# Altium footprint library eliot.PcbLib: 9 footprints
Each footprint in its own frame and in the unit in brackets; x right, y up, seen from the top. Pads: shape width x height; smd on the part's side, far side on the other; paste and mask are expansions set on the pad; w line width, h text height; cw(c..) or ccw(c..) is an arc to the next point about the centre after c.
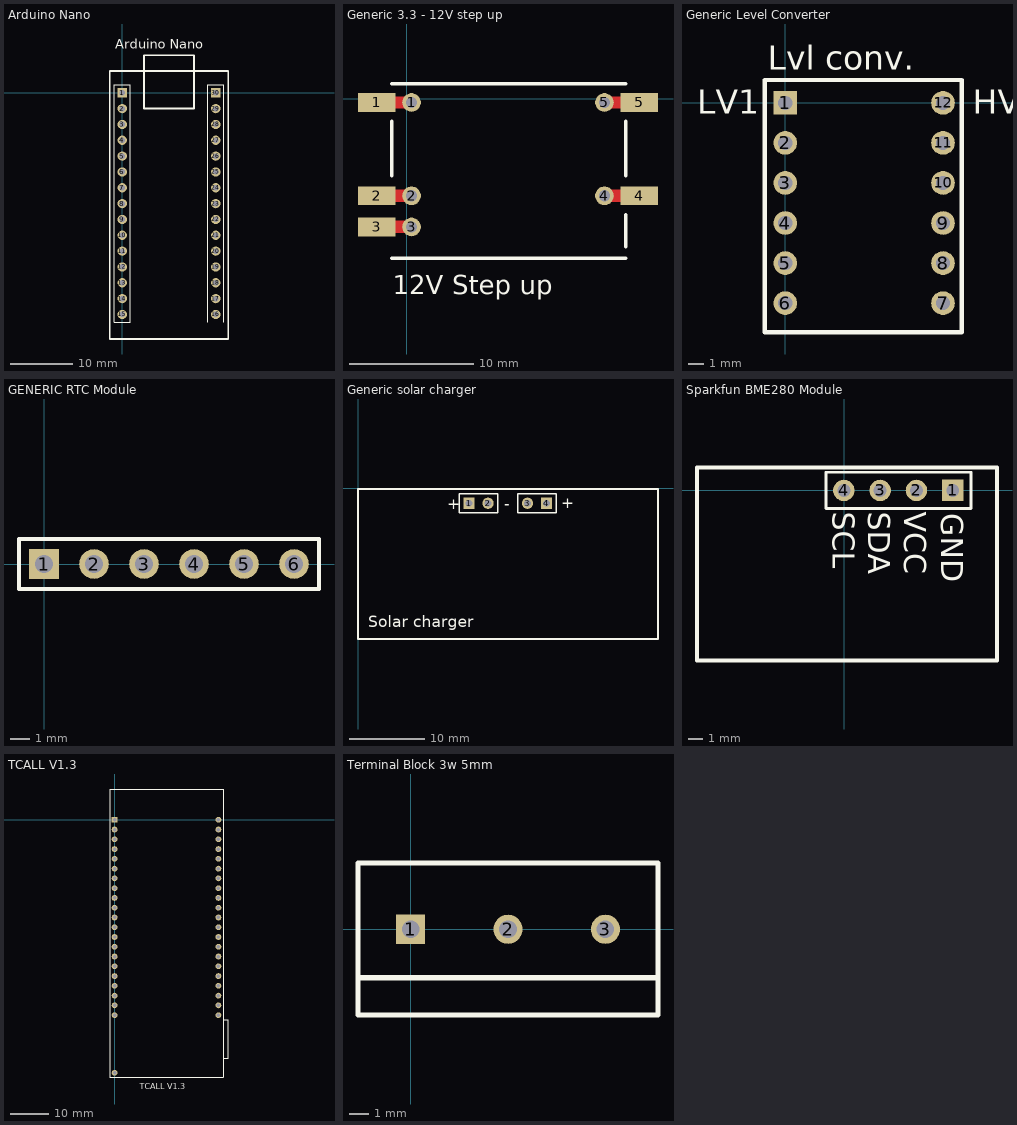
[diagram p0: the footprints below, top view; thin cyan lines are the x and y axes]

## Arduino Nano [mm]
height 8
pads (30):
  rect 1.5x1.5 hole 0.9: 1(0,0) 30(15,0)
  round 1.5 hole 0.9: 2(0,-2.54) 3(0,-5.08) 4(0,-7.62) 5(0,-10.16) 6(0,-12.7) 7(0,-15.24) 8(0,-17.78) 9(0,-20.32) 10(0,-22.86) 11(0,-25.4) 12(0,-27.94) 13(0,-30.48) 14(0,-33.02) 15(0,-35.56) 16(15,-35.56) 17(15,-33.02) 18(15,-30.48) 19(15,-27.94) 20(15,-25.4) 21(15,-22.86) 22(15,-20.32) 23(15,-17.78) 24(15,-15.24) 25(15,-12.7) 26(15,-10.16) 27(15,-7.62) 28(15,-5.08) 29(15,-2.54)
Top Overlay:
  lines w0.2: 13.73,-36.83 13.73,1.27 16.27,1.27 16.27,-0.635 16.27,-36.83 ; -1.27,-36.83 -1.27,1.27 1.27,1.27 1.27,-0.635 1.27,-36.83 -1.27,-36.83
  lines w0.279: -2,-39.5 17,-39.5 17,3.5 -2,3.5 -2,-39.5 ; 3.5,-2.54 11.5,-2.54 11.5,6 3.5,6 3.5,-2.54
  text "Arduino Nano" at -1.1,7.1 h1.52

## Generic 3.3 - 12V step up [mm]
height 5
pads (10):
  rect 3x1.5 smd: 1(-2.4,-0.3) 2(-2.4,-7.8) 3(-2.4,-10.3) 4(18.7,-7.8) 5(18.7,-0.3)
  round 1.5 hole 0.9: 1(0.4,-0.3) 2(0.4,-7.8) 3(0.4,-10.3) 4(15.9,-7.8) 5(15.9,-0.3)
Top Layer:
  lines w1: -2.4,-10.3 0.4,-10.3 ; -2.4,-7.8 0.4,-7.8 ; -2.4,-0.3 0.4,-0.3 ; 15.9,-7.8 18.7,-7.8 ; 15.9,-0.3 18.7,-0.3
Top Overlay:
  lines w0.279: -1.2,-12.8 17.6,-12.8 ; -1.2,-6.2 -1.2,-1.8 ; -1.2,1.2 17.6,1.2 ; 17.6,-11.9 17.6,-9.3 ; 17.6,-6.2 17.6,-1.8
  text "12V Step up" at -1.1,-15.7 h1.52

## Generic Level Converter [mm]
height 2.75
pads (12):
  rect 1.5x1.5 hole 0.9: 1(0,0)
  round 1.5 hole 0.9: 2(0,-2.54) 3(0,-5.08) 4(0,-7.62) 5(0,-10.16) 6(0,-12.7) 7(10,-12.7) 8(10,-10.16) 9(10,-7.62) 10(10,-5.08) 11(10,-2.54) 12(10,0)
Top Overlay:
  lines w0.2: -1.27,-13.97 -1.27,1.27
  lines w0.279: -1.3,-14.55 11.2,-14.55 11.2,1.45 -1.3,1.45 -1.3,-14.55
  text "Lvl conv." at -1.1,2.1 h1.52
  text "HV1" at 11.9,-0.7 h1.52
  text "LV1" at -5.6,-0.7 h1.52

## GENERIC RTC Module [mm]
pads (6):
  rect 1.5x1.5 hole 0.9: 1(0,0)
  round 1.5 hole 0.9: 2(2.54,0) 3(5.08,0) 4(7.62,0) 5(10.16,0) 6(12.7,0)
Top Overlay:
  lines w0.2: -1.27,-1.27 -1.27,1.27 13.97,1.27 13.97,-1.27 -1.27,-1.27

## Generic solar charger [mm]
height 7.5
pads (4):
  rect 1.5x1.5 hole 0.9: 1(14.8,-2) 4(25.14,-2)
  round 1.5 hole 0.9: 2(17.34,-2) 3(22.6,-2)
Top Overlay:
  lines w0.2: 13.53,-3.27 13.53,-0.73 18.61,-0.73 18.61,-3.27 13.53,-3.27 ; 21.33,-3.27 21.33,-0.73 26.41,-0.73 26.41,-3.27 21.33,-3.27
  lines w0.279: 0,-20.1 40,-20.1 40,-0.1 0,-0.1 0,-20.1
  text "+" at 11.9,-2.8 h1.52
  text "-" at 19.5,-2.8 h1.52
  text "+" at 27.1,-2.7 h1.52
  text "Solar charger" at 1.4,-18.5 h1.52

## PCBComponent_1 [mm]

## Sparkfun BME280 Module [mm]
pads (4):
  rect 1.5x1.5 hole 0.9: 1(7.6,0)
  round 1.5 hole 0.9: 2(5.06,0) 3(2.52,0) 4(-0.02,0)
Top Overlay:
  lines w0.2: -1.27,-1.27 8.89,-1.27 8.89,1.27 -1.27,1.27 -1.27,-1.27
  lines w0.279: -10.3,-11.9 -10.3,1.6 10.7,1.6 10.7,-11.9 -10.3,-11.9
  text "GND" at 6.8,-1.6 h1.52
  text "VCC" at 4.2,-1.5 h1.52
  text "SDA" at 1.7,-1.5 h1.52
  text "SCL" at -0.8,-1.5 h1.52

## TCALL V1.3 [mm]
height 8
pads (43):
  rect 1.5x1.5 hole 0.9: 1(0,0)
  round 1.5 hole 0.9: 2(0,-2.54) 3(0,-5.08) 4(0,-7.62) 5(0,-10.16) 6(0,-12.7) 7(0,-15.24) 8(0,-17.78) 9(0,-20.32) 10(0,-22.86) 11(0,-25.4) 12(0,-27.94) 13(0,-30.48) 14(0,-33.02) 15(0,-35.56) 16(0,-38.1) 17(0,-40.64) 18(0,-43.18) 19(0,-45.72) 20(0,-48.26) 21(0,-50.8) 22(27,-50.8) 23(27,-48.26) 24(27,-45.72) 25(27,-43.18) 26(27,-40.64) 27(27,-38.1) 28(27,-35.56) 29(27,-33.02) 30(27,-30.48) 31(27,-27.94) 32(27,-25.4) 33(27,-22.86) 34(27,-20.32) 35(27,-17.78) 36(27,-15.24) 37(27,-12.7) 38(27,-10.16) 39(27,-7.62) 40(27,-5.08) 41(27,-2.54) 42(27,0) VBAT(0,-65.8)
Top Overlay:
  lines w0.3: 28.2,-62 29.5,-62 29.5,-52 28.2,-52 ; -1.2,-67 28.2,-67 28.2,8 -1.2,8 -1.2,-67
  text "TCALL V1.3" at 6.5,-70 h1.52

## Terminal Block 3w 5mm [mm]
height 12
pads (3):
  rect 1.5x1.5 hole 0.9: 1(0,0)
  round 1.5 hole 0.9: 2(5,0) 3(10,0)
Top Overlay:
  lines w0.279: -2.7,-2.5 12.6,-2.5 ; -2.7,-4.4 -2.7,3.4 12.7,3.4 12.7,-4.4 -2.7,-4.4